# Altium schematic symbol library U_LM2931.SchLib: 1 symbol
Pins are listed as number, name and electrical type; pins without a type are passive.

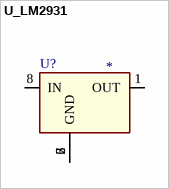
[diagram p0: symbol U_LM2931]

## U_LM2931
designator U?
pins: 1 OUT, 2 GND, 3 GND, 6 GND, 7 GND, 8 IN